# EAGLE library part DS1307ZN+ (library Common-Parts-Library-Eagle)
RTC circuit; I2C; NV SRAM; 56B; 4.5÷5.5VDC; SO8
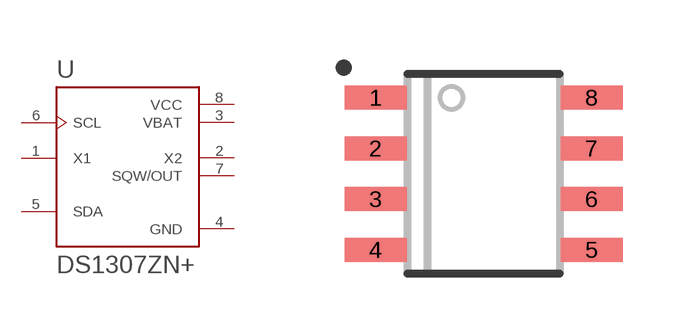
[diagram p71: symbol with the pads of DS1307ZN+_SOIC127P600X175-8N; footprint DS1307ZN+_SOIC127P600X175-8N]

Designator prefix U

## DS1307ZN+ (MANUFACTURER: Maxim Integrated)  [DS1307ZN+_SOIC127P600X175-8N]
1  X1  in
2  X2  out
3  VBAT  pwr
4  GND  pwr
5  SDA
6  SCL  in
7  SQW/OUT  out
8  VCC  pwr

## Footprint DS1307ZN+_SOIC127P600X175-8N (pad centres in mm)
smd 1.55 x 0.6: 1 -2.7,1.905; 2 -2.7,0.635; 3 -2.7,-0.635; 4 -2.7,-1.905; 5 2.7,-1.905; 6 2.7,-0.635; 7 2.7,0.635; 8 2.7,1.905